# EAGLE library part LUL_DISP_OLED_UG-2864HSWEG01 (library lul)
UG-2864HSWEG01 OLED display Both 1.3" and 0.96" models share the same FPC tab footprint, only the screen dimensions vary.
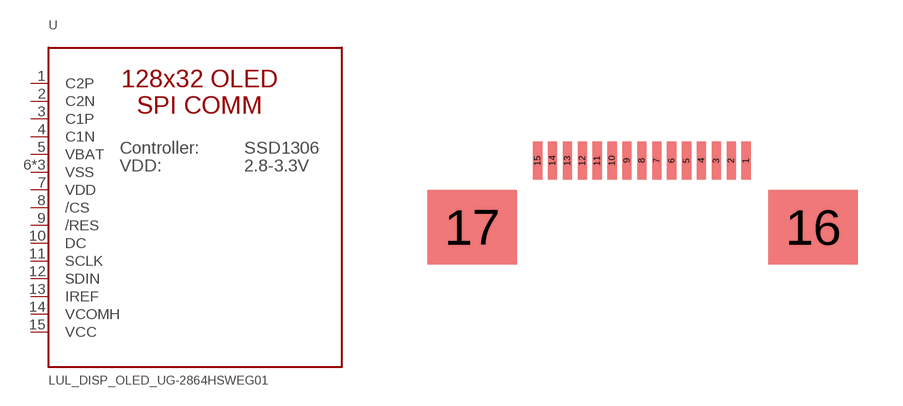
[diagram p0: symbol with the pads of LUL_UG-2864HSWEG01_1.3_WRAPAROUND; footprint LUL_UG-2864HSWEG01_1.3_WRAPAROUND]

Designator prefix U

## LUL_DISP_OLED_UG-2864HSWEG01  [LUL_UG-2864HSWEG01_1.3_WRAPAROUND]
1  C2P  in
2  C2N  in
3  C1P  in
4  C1N  in
5  VBAT  in
6  VSS  pwr
7  VDD  pwr
8  /CS  in
9  /RES  in
10  DC  in
11  SCLK
12  SDIN
13  IREF  in
14  VCOMH  out
15  VCC  pwr
16  VSS  pwr
17  VSS  pwr

## Footprint LUL_UG-2864HSWEG01_1.3_WRAPAROUND (pad centres in mm)
smd 0.31 x 1.28: 1 3.5,0; 2 3,0; 3 2.5,0; 4 2,0; 5 1.5,0; 6 1,0; 7 0.5,0; 8 0,0; 9 -0.5,0; 10 -1,0; 11 -1.5,0; 12 -2,0; 13 -2.5,0; 14 -3,0; 15 -3.5,0
smd 3 x 2.5: 16 5.75,-2.24; 17 -5.7,-2.24